# EAGLE library part ADL5523 (library mr_radar)
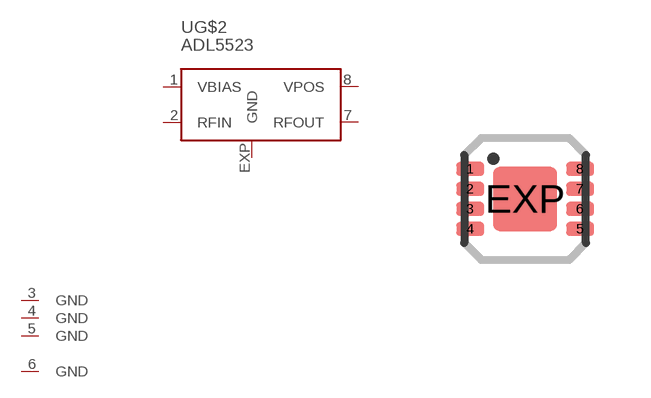
[diagram p3: symbol with the pads of LFCSP8; footprint LFCSP8]

Designator prefix -; gates G$2=ADL5523 G$1=GND G$3=GND G$4=GND G$5=GND

## ADL5523  [LFCSP8]
1  G$2:VBIAS  in
2  G$2:RFIN  in
3  G$1:GND  pwr
4  G$3:GND  pwr
5  G$4:GND  pwr
6  G$5:GND  pwr
7  G$2:RFOUT  out
8  G$2:VPOS  in
EXP  G$2:GND

## Footprint LFCSP8 (pad centres in mm)
8-Lead Lead Frame Chip Scale Package LFCSP_VD 3 mm × 3 mm Body, Very Thin, Dual Lead Source: http://www.analog.com/static/imported-files/data_sheets/AD8597_8599.pdf
smd 0.7 x 0.35: 1 -1.375,0.75; 2 -1.375,0.25; 3 -1.375,-0.25; 4 -1.375,-0.75; 5 1.375,-0.75; 6 1.375,-0.25; 7 1.375,0.25; 8 1.375,0.75
smd 1.6 x 1.6: EXP 0,0